# EAGLE library part IM43GR (library matt)
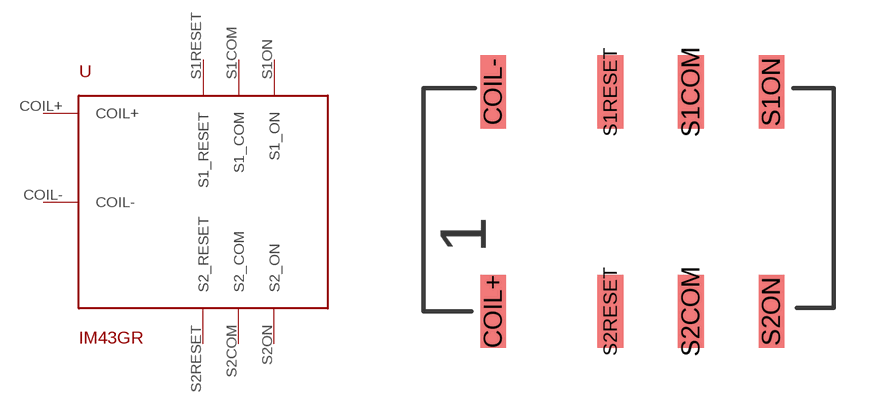
[diagram p6: symbol with the pads of IM43GR; footprint IM43GR]

Designator prefix -

## IM43GR  [IM43GR]
COIL+  COIL+
COIL-  COIL-
S1COM  S1_COM
S1ON  S1_ON
S1RESET  S1_RESET
S2COM  S2_COM
S2ON  S2_ON
S2RESET  S2_RESET

## Footprint IM43GR (pad centres in mm)
smd 0.7 x 2: COIL+ -4.3,-3.1; COIL- -4.3,2.9; S1COM 1.1,2.9; S1ON 3.3,2.9; S1RESET -1.1,2.9; S2COM 1.1,-3.1; S2ON 3.3,-3.1; S2RESET -1.1,-3.1